# EAGLE library part CAN_SENSOR_V2 (library andereBauteile)
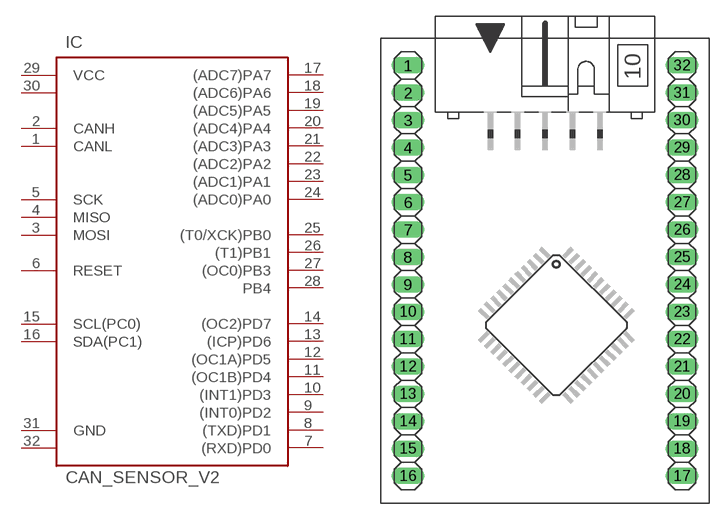
[diagram p39: symbol with the pads of CAN_SENSOR_V2; footprint CAN_SENSOR_V2]

Designator prefix IC

## CAN_SENSOR_V2  [CAN_SENSOR_V2]
1  CANL
2  CANH
3  MOSI  out
4  MISO  in
5  SCK  out
6  RESET
7  (RXD)PD0
8  (TXD)PD1
9  (INT0)PD2
10  (INT1)PD3
11  (OC1B)PD4
12  (OC1A)PD5
13  (ICP)PD6
14  (OC2)PD7
15  SCL(PC0)
16  SDA(PC1)
17  (ADC7)PA7
18  (ADC6)PA6
19  (ADC5)PA5
20  (ADC4)PA4
21  (ADC3)PA3
22  (ADC2)PA2
23  (ADC1)PA1
24  (ADC0)PA0
25  (T0/XCK)PB0
26  (T1)PB1
27  (OC0)PB3
28  PB4
29  VCC  pwr
30  VCC  pwr
31  GND  pwr
32  GND  pwr

## Footprint CAN_SENSOR_V2 (pad centres in mm)
drill 1.016 long: 1 -12.7,17.78; 2 -12.7,15.24; 3 -12.7,12.7; 4 -12.7,10.16; 5 -12.7,7.62; 6 -12.7,5.08; 7 -12.7,2.54; 8 -12.7,0; 9 -12.7,-2.54; 10 -12.7,-5.08; 11 -12.7,-7.62; 12 -12.7,-10.16; 13 -12.7,-12.7; 14 -12.7,-15.24; 15 -12.7,-17.78; 16 -12.7,-20.32; 17 12.7,-20.32; 18 12.7,-17.78; 19 12.7,-15.24; 20 12.7,-12.7; 21 12.7,-10.16; 22 12.7,-7.62; 23 12.7,-5.08; 24 12.7,-2.54; 25 12.7,0; 26 12.7,2.54; 27 12.7,5.08; 28 12.7,7.62; 29 12.7,10.16; 30 12.7,12.7; 31 12.7,15.24; 32 12.7,17.78